# EAGLE library part RES-4-V (library CougsInSpace-Resistors)
Resistor Array - 4 - Vertical
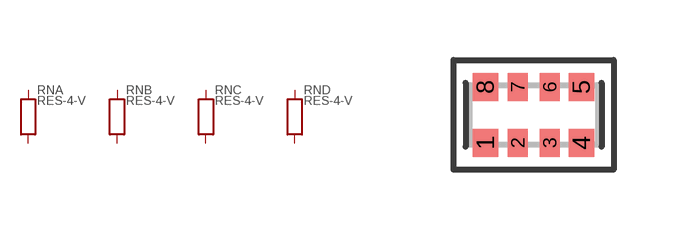
[diagram p1: symbol with the pads of 1632; footprint 1632]

Designator prefix RN; gates A=RESISTOR-V B=RESISTOR-V C=RESISTOR-V D=RESISTOR-V

## RES-4-V-10K-1632 (PACKAGE: 1632; POWER: 1/16W; SKU: 26-0000; TEMP: 100ppm/°C; VALUE: 10kΩ 1%), RES-4-V-220K-1632 (PACKAGE: 1632; POWER: 1/16W; SKU: 26-0002; TEMP: 200ppm/°C; VALUE: 220kΩ 5%)  [1632]
1  A:1  pas
2  B:1  pas
3  C:1  pas
4  D:1  pas
5  D:2  pas
6  C:2  pas
7  B:2  pas
8  A:2  pas

## Footprint 1632 (pad centres in mm)
1632 (0612 in)
smd 0.64 x 0.7: 1 -1.2,-0.7; 4 1.2,-0.7; 5 1.2,0.7; 8 -1.2,0.7
smd 0.5 x 0.7: 2 -0.4,-0.7; 3 0.4,-0.7; 6 0.4,0.7; 7 -0.4,0.7